# Altium schematic symbol library MTSW-104-08-S-S-270.SchLib: 1 symbol
Pins are listed as number, name and electrical type; pins without a type are passive.

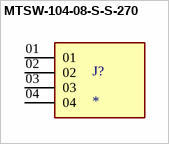
[diagram p0: symbol MTSW-104-08-S-S-270]

## MTSW-104-08-S-S-270
designator J?
Connector Header Through Hole 4 position 0.100 (2.54mm); MF: Samtec; MP: MTSW-104-08-S-S-270; SnapEDA_Link: https://www.snapeda.com/parts/MTSW-104-08-S-S-270/Samtec/view-part/?ref=snap; Package: None; Value: *; Check_prices: https://www.snapeda.com/parts/MTSW-104-08-S-S-270/Samtec/view-part/?ref=eda
footprint SAMTEC_MTSW-104-08-S-S-270
pins: 01, 02, 03, 04